# Altium footprint library Pcb_Pin_1.PcbLib: 1 footprints
Each footprint in its own frame and in the unit in brackets; x right, y up, seen from the top. Pads: shape width x height; smd on the part's side, far side on the other; paste and mask are expansions set on the pad; w line width, h text height; cw(c..) or ccw(c..) is an arc to the next point about the centre after c.
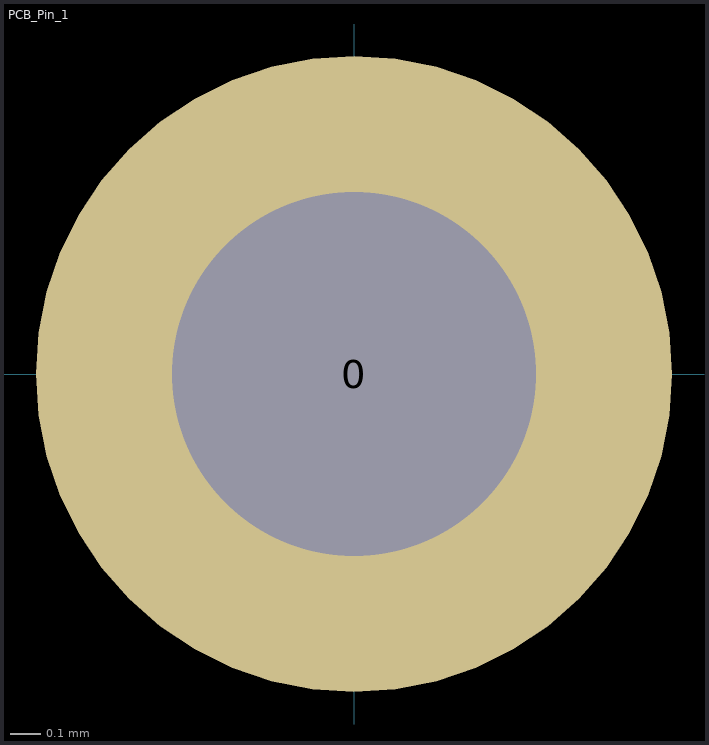
[diagram p0: the footprint, top view; thin cyan lines are the x and y axes]

## PCB_Pin_1 [mm]
pads (1):
  round 2.1 hole 1.2: 0(0,0)
3D body "PIN_1.stp": height 4.55, standoff -3.12, extent -1,-0.999 1,0.999